# EAGLE library part SI7997DP-T1-GE3 (library SI7997DP-T1-GE3)
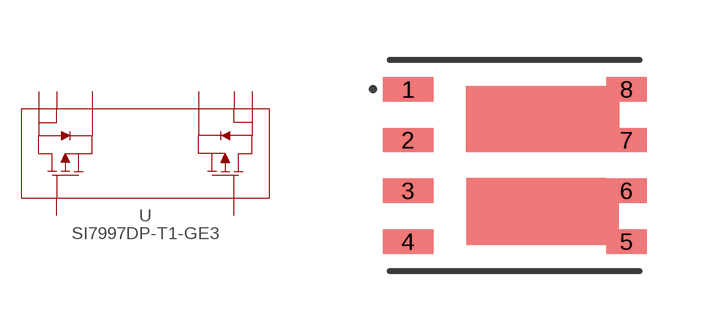
[diagram p0: symbol with the pads of POWERPAK_SO-8_VIS; footprint POWERPAK_SO-8_VIS]

Designator prefix U

## SI7997DP-T1-GE3 (COPYRIGHT: Copyright (C) 2024 Ultra Librarian. All rights reserved.; MANUFACTURER_PART_NUMBER: SI7997DP-T1-GE3; MFR_NAME: Vishay)  [POWERPAK_SO-8_VIS]
1  S1  pas
2  G1  pas
3  S2  pas
4  G2  pas
5  D2  pas
6  D2_2  pas
7  D1  pas
8  D1_2  pas

## Footprint POWERPAK_SO-8_VIS (pad centres in mm)
smd 1.27 x 0.61: 1 -2.67,1.905; 2 -2.67,0.635; 3 -2.67,-0.635; 4 -2.67,-1.905
smd 1.016 x 0.61: 5 2.797,-1.905; 6 2.797,-0.635; 7 2.797,0.635; 8 2.797,1.905